# EAGLE library part 750341086 (library Wurth Electronics Midcom Inc - EAGLE Lib V2-1)
Package Style: EE16/7/5 Mounting: THT Pins: 10 pins Bobbin: 070-5472 Best pinouts for production vary per application. Please contact Wurth Electronics Midcom, Inc. for assistance with your custom design. Website: Wurth Electronics Midcom <http://www.we-online.com/midcom> Contact us Wurth Electronics Midcom, Inc. 121 Airport Dr. Watertown, SD 57201 Phone: (605) 886-4385 Fax: (605) 886-4486 E-Mail: midcom@we-online.com
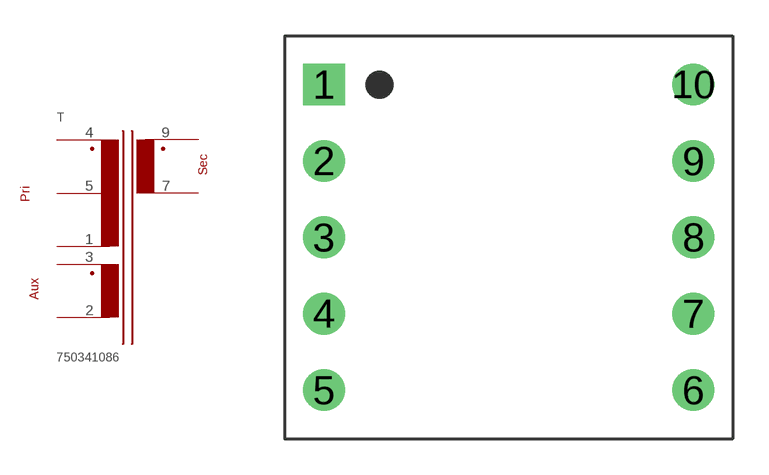
[diagram p257: symbol with the pads of EE16/7/5_THT_H_10PIN_(5472); footprint EE16/7/5_THT_H_10PIN_(5472)]

Designator prefix T

## 750341086  [EE16/7/5_THT_H_10PIN_(5472)]
1  1  pas
2  2  pas
3  3  pas
4  4  pas
5  5  pas
7  7  pas
9  9  pas

## Footprint EE16/7/5_THT_H_10PIN_(5472) (pad centres in mm)
Package Style: EE16/7/5 Mounting: THT Pins: 10 Bobbin: 070-5472
drill 1.168 square: 1 -7.747,6.401
drill 1.168: 2 -7.747,3.2; 3 -7.747,0; 4 -7.747,-3.2; 5 -7.747,-6.401; 6 7.747,-6.401; 7 7.747,-3.2; 8 7.747,0; 9 7.747,3.2; 10 7.747,6.401